# Altium footprint library Fox_PcbLib.PcbLib: 13 footprints
Each footprint in its own frame and in the unit in brackets; x right, y up, seen from the top. Pads: shape width x height; smd on the part's side, far side on the other; paste and mask are expansions set on the pad; w line width, h text height; cw(c..) or ccw(c..) is an arc to the next point about the centre after c.
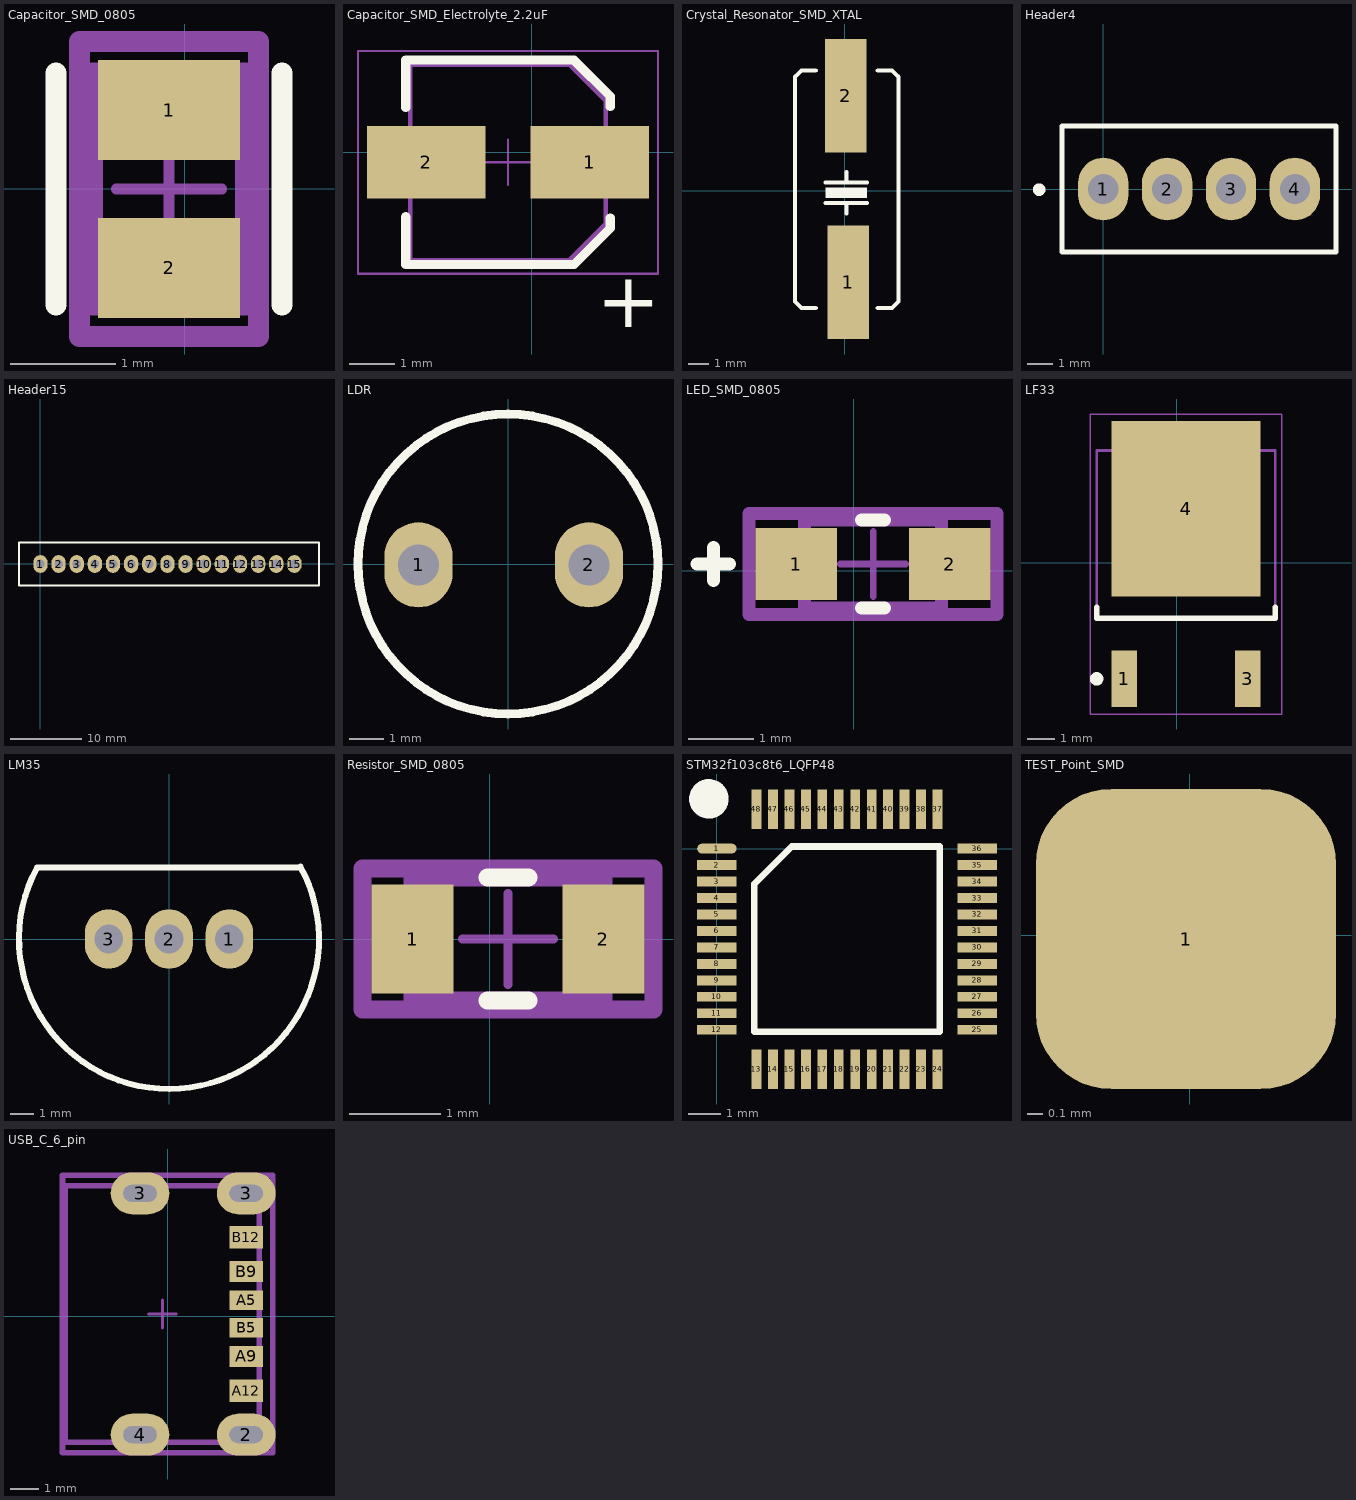
[diagram p0: the footprints below, top view; thin cyan lines are the x and y axes]

## Capacitor_SMD_0805 [mm] "capacitor smd 0805"
pads (2):
  rect 1.35x0.95 smd paste+0 mask+0: 1(-0.15,0.75) 2(-0.15,-0.75)
Top Overlay:
  lines w0.2: -1.225,-1.1 -1.225,1.1 ; 0.925,-1.1 0.925,1.1
Top Assembly:
  lines w0.2: -1,-1.4 0.7,-1.4 0.7,1.4 -1,1.4 -1,-1.4
  text ".Designator" at 0.038,0 h1
Top 3D Body:
  lines w0.2: -0.875,-1.1 0.575,-1.1 0.575,1.1 -0.875,1.1 -0.875,-1.1
Top Courtyard:
  lines w0.2: -1,-1.4 0.7,-1.4 0.7,1.4 -1,1.4 -1,-1.4
Top Component Center:
  lines w0.1: -0.65,0 0.35,0 ; -0.15,-0.5 -0.15,0.5
3D body "Cap_KEMET_C0805C472J3HAC_eec.STEP": height 0.25, standoff 0, extent -1,-1.4 0.7,1.4

## Capacitor_SMD_Electrolyte_2.2uF [mm] "Capacitor SMD Electrolyte 2.2uF"
pads (2):
  rect 2.6x1.6 smd: 1(1.281,-0.221) 2(-2.319,-0.221)
Top Overlay:
  lines w0.2: -2.769,-1.418 -2.769,-2.471 0.931,-2.471 1.731,-1.671 1.731,-1.443 ; -2.769,0.982 -2.769,2.029 0.931,2.029 1.731,1.229 1.731,1.007
  text "+" at 1.431,-3.846 h1.22
Top Designator:
  text ".Designator" at -6.516,-0.62 h1.2
Top Component Outline:
  lines w0.1: -2.669,-2.371 -2.669,1.929 0.831,1.929 1.631,1.129 1.631,-1.571 0.831,-2.371 -2.669,-2.371
Top 3D Body:
  lines w0.1: -2.669,-2.371 -2.669,1.929 0.831,1.929 1.631,1.129 1.631,-1.571 0.831,-2.371 -2.669,-2.371
Top Courtyard:
  lines w0.05: -1.019,-0.221 -0.019,-0.221 ; -0.519,-0.721 -0.519,0.279 ; -3.819,-2.671 -3.819,2.229 2.781,2.229 2.781,-2.671 -3.819,-2.671
3D body "4x5.5x1.stp": height 5.5, standoff 0, extent -3.019,-2.371 1.981,1.929

## Crystal_Resonator_SMD_XTAL [mm] "crystal ceramic resonator xtal"
pads (2):
  rect 2x5.5 smd: 1(0.176,-4.419) 2(0.049,4.598)
Top Overlay:
  region: 1.08,-0.342 1.08,0.158 -0.92,0.158 -0.92,-0.342
  lines w0.2: -1.4,-5.673 -2.083,-5.673 -2.4,-5.356 -2.4,5.519 -2.092,5.827 -1.4,5.827 ; -0.92,-0.592 1.08,-0.592 ; -0.92,0.408 1.08,0.408 ; 0.08,-1.092 0.08,-0.592 ; 0.08,0.408 0.08,0.908 ; 1.6,-5.673 2.283,-5.673 2.6,-5.356 2.6,5.519 2.292,5.827 1.6,5.827
3D body "User Library-HC49_SMD.STEP": height 5.18, standoff 0, extent -2.15,-6.132 2.35,6.168

## Header4 [mm]
pads (4):
  oval 2x2.5 hole 1.2: 1(0,0) 2(2.54,0) 3(5.08,0) 4(7.62,0)
Top Overlay:
  circle w0.25: c-2.55,-0.025 r0.125
  lines w0.2: 4.17,-2.5 9.255,-2.5 9.255,2.5 4.195,2.5 ; 4.175,-2.5 -1.635,-2.5 -1.635,2.5 4.175,2.5

## Header15 [mm] "Header pin 15"
pads (15):
  oval 2x2.5 hole 1.2: 1(0,-0.025) 2(2.54,-0.025) 3(5.08,-0.025) 4(7.62,-0.025) 5(10.16,-0.025) 6(12.7,-0.025) 7(15.24,-0.025) 8(17.78,-0.025) 9(20.32,-0.025) 10(22.86,-0.025) 11(25.4,-0.025) 12(27.94,-0.025) 13(30.48,-0.025) 14(33.02,-0.025) 15(35.56,-0.025)
Top Overlay:
  lines w0.254: -3,-1.025 -3,-0.025 ; 0,-3.025 1,-3.025 ; 0,2.975 1,2.975 ; 39,-1.025 39,-0.025 ; -3,-0.025 -3,2.975 1,2.975 ; -3,-0.025 -3,-3.025 1,-3.025 ; 1,-3.025 35,-3.025 37,-3.025 39,-3.025 39,-0.025 ; 1,2.975 34,2.975 35,2.975 39,2.975 39,-0.025

## LDR [mm] "LDR DIP"
pads (2):
  oval 2x2.5 hole 1.2: 1(-2.625,-0.025) 2(2.375,-0.025)
Top Overlay:
  circle w0.254: c0,0 r4.4

## LED_SMD_0805 [mm] "LED SMD 0805"
pads (2):
  rect 1.25x1.1 smd paste+0 mask+0: 1(-0.875,0.1) 2(1.475,0.1)
Top Overlay:
  lines w0.2: -2.4,0.1 -1.9,0.1 ; -2.15,-0.15 -2.15,0.35 ; 0.125,-0.575 0.475,-0.575 ; 0.125,0.775 0.475,0.775
Top Assembly:
  lines w0.2: -1.6,-0.675 -1.6,0.875 2.2,0.875 2.2,-0.675 -1.6,-0.675
  text ".Designator" at 0.3,0.099 h1
Top 3D Body:
  lines w0.2: -0.75,-0.575 -0.75,0.775 1.35,0.775 1.35,-0.575 -0.75,-0.575
Top Courtyard:
  lines w0.2: -1.6,-0.675 -1.6,0.875 2.2,0.875 2.2,-0.675 -1.6,-0.675
Top Component Center:
  lines w0.1: -0.2,0.1 0.8,0.1 ; 0.3,-0.4 0.3,0.6
3D body "Diode_Kingbright_AP2012EC_eec.STEP": height 0.25, standoff 0, extent -1.6,-0.675 2.2,0.875

## LF33 [mm] "LF33 DPAK 3.3 voltage regulator"
pads (3):
  rect 0.95x2.1 smd: 1(-1.93,-4.3) 3(2.63,-4.3)
  rect 5.5x6.5 smd: 4(0.35,2)
Top Overlay:
  circle w0.25: c-2.955,-4.3 r0.125
  lines w0.2: -2.95,-1.65 -2.95,-2.05 3.65,-2.05 3.65,-1.65
Top 3D Body:
  lines w0.1: -2.95,-2.05 3.65,-2.05 3.65,4.15 -2.95,4.15 -2.95,-2.05
Top Courtyard:
  lines w0.05: -3.2,-5.6 3.9,-5.6 3.9,5.5 -3.2,5.5 -3.2,-5.6
  lines w0.1: -0.15,-0.05 0.85,-0.05 ; 0.35,-0.55 0.35,0.45
3D body: height 2.4, standoff 0, extent -2.95,-2.05 3.65,4.15

## LM35 [mm] "LM35 DZ Dip"
pads (3):
  oval 2x2.5 hole 1.2: 1(2.54,0) 2(0,0) 3(-2.54,0)
Top Overlay:
  lines w0.254: -5.542,3.001 ccw(c0,0) 5.524,3.035 ; -5.54,3 5.46,3

## Resistor_SMD_0805 [mm] "resistor smd 0805"
pads (2):
  rect 0.9x1.2 smd paste+0 mask+0: 1(-0.85,0) 2(1.25,0)
Top Overlay:
  lines w0.2: -0.025,-0.675 0.425,-0.675 ; -0.025,0.675 0.425,0.675
Top Assembly:
  lines w0.2: -1.4,-0.775 -1.4,0.775 1.8,0.775 1.8,-0.775 -1.4,-0.775
  text ".Designator" at 0.2,0.188 h1
Top 3D Body:
  lines w0.2: -0.85,-0.675 -0.85,0.675 1.25,0.675 1.25,-0.675 -0.85,-0.675
Top Courtyard:
  lines w0.2: -1.4,-0.775 -1.4,0.775 1.8,0.775 1.8,-0.775 -1.4,-0.775
Top Component Center:
  lines w0.1: -0.3,0 0.7,0 ; 0.2,-0.5 0.2,0.5
3D body "Res_Yageo_RT0805WRB07165RL_eec.STEP": height 0.25, standoff 0, extent -1.4,-0.775 1.8,0.775

## STM32f103c8t6_LQFP48 [mm]
pads (48):
  oval 1.2x0.3 smd: 1(0,0)
  rect 1.2x0.3 smd: 2(0,-0.5) 3(0,-1) 4(0,-1.5) 5(0,-2) 6(0,-2.5) 7(0,-3) 8(0,-3.5) 9(0,-4) 10(0,-4.5) 11(0,-5) 12(0,-5.5) 25(7.9,-5.5) 26(7.9,-5) 27(7.9,-4.5) 28(7.9,-4) 29(7.9,-3.5) 30(7.9,-3) 31(7.9,-2.5) 32(7.9,-2) 33(7.9,-1.5) 34(7.9,-1) 35(7.9,-0.5) 36(7.9,0)
  rect 0.3x1.2 smd: 13(1.2,-6.7) 14(1.7,-6.7) 15(2.2,-6.7) 16(2.7,-6.7) 17(3.2,-6.7) 18(3.7,-6.7) 19(4.2,-6.7) 20(4.7,-6.7) 21(5.2,-6.7) 22(5.7,-6.7) 23(6.2,-6.7) 24(6.7,-6.7) 37(6.7,1.2) 38(6.2,1.2) 39(5.7,1.2) 40(5.2,1.2) 41(4.7,1.2) 42(4.2,1.2) 43(3.7,1.2) 44(3.2,1.2) 45(2.7,1.2) 46(2.2,1.2) 47(1.7,1.2) 48(1.2,1.2)
Top Overlay:
  circle w0.6: c-0.244,1.511 r0.3
  lines w0.2: 1.135,-5.565 6.765,-5.565 6.765,0.065 2.27,0.065 1.135,-1.07 1.135,-5.565
3D body "SW3dPS-P-LQFP48-7x7-0.50.STEP": height 1.4, standoff -0.05, extent -0.55,-7.25 8.45,1.75

## TEST_Point_SMD [mm] "TEST_Point_SMD"
pads (1):
  rrect50% 2x2 smd: 1(-0.025,-0.025)

## USB_C_6_pin [mm] "USB C connector 6 pin"
pads (10):
  rrect100% 2.1x1.5 hole 1.2 slot 0.6 at 90 deg paste-2539.97 mask+0: 2(2.8,-4.245) 3(-1,4.395) 3(2.8,4.395) 4(-1,-4.245)
  rect 1.2x0.7 smd paste+0 mask+0: A5(2.8,0.575) B5(2.8,-0.425)
  rect 1.2x0.76 smd paste+0 mask+0: A9(2.8,-1.445) B9(2.8,1.595)
  rect 1.2x0.8 smd paste+0 mask+0: A12(2.8,-2.675) B12(2.8,2.825)
Top Assembly:
  lines w0.2: -3.775,-4.895 3.75,-4.895 3.75,5.045 -3.775,5.045 -3.775,-4.895
  text ".Designator" at -0.013,0.075 h1
Top 3D Body:
  lines w0.2: -3.675,-4.52 3.275,-4.52 3.275,4.67 -3.675,4.67 -3.675,-4.52
Top Courtyard:
  lines w0.2: -3.775,-4.895 3.75,-4.895 3.75,5.045 -3.775,5.045 -3.775,-4.895
Top Component Center:
  lines w0.1: -0.7,0.075 0.3,0.075 ; -0.2,-0.425 -0.2,0.575
3D body "Conn_GCT_USB4125-GF-A-0190_eec.STEP": height 0.25, standoff 0, extent -3.775,-4.895 3.75,5.045